# Altium footprint library 653110124022.PcbLib: 1 footprints
Each footprint in its own frame and in the unit in brackets; x right, y up, seen from the top. Pads: shape width x height; smd on the part's side, far side on the other; paste and mask are expansions set on the pad; w line width, h text height; cw(c..) or ccw(c..) is an arc to the next point about the centre after c.
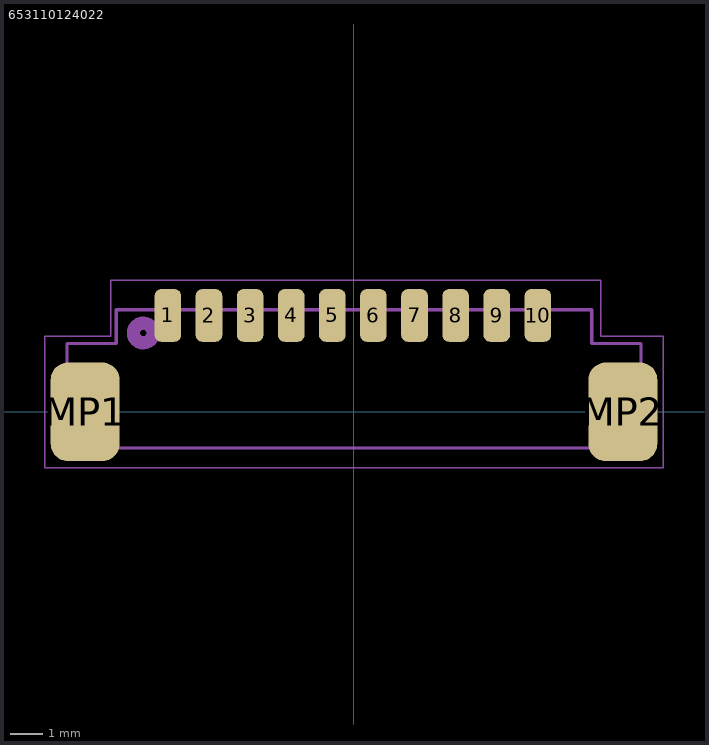
[diagram p0: the footprint, top view; thin cyan lines are the x and y axes]

## 653110124022 [mm]
pads (12):
  rrect50% 0.81x1.6 smd: 1(-5.659,2.929) 2(-4.409,2.929) 3(-3.159,2.929) 4(-1.909,2.929) 5(-0.659,2.929) 6(0.591,2.929) 7(1.841,2.929) 8(3.091,2.929) 9(4.341,2.929) 10(5.591,2.929)
  rrect50% 2.1x3 smd: MP1(-8.175,0) MP2(8.175,0)
Top Assembly:
  circle w0.4: c-6.41,2.397 r0.3
  lines w0.1: -8.725,-0.78 -8.725,2.08 -7.225,2.08 -7.225,3.1 7.225,3.1 7.225,2.08 8.725,2.08 8.725,-0.78 ; -8.705,-0.8 -7.225,-0.8 -7.225,-1.1 7.225,-1.1 7.225,-0.8 8.705,-0.8
  text "'.Designator'" at -2.856,0.673 h0.5
Top Courtyard:
  lines w0.05: -9.4,-1.7 -9.4,2.3 -7.4,2.3 -7.4,4 7.5,4 7.5,3.9 7.5,2.3 9.4,2.3 9.4,-1.7 -9.4,-1.7
3D body "653110124022 (rev1).stp": height 4.75, standoff 0, extent -8.725,-1 8.725,3.205